# Altium schematic symbol library CX2040LNLT_component.SchLib: 1 symbol
Pins are listed as number, name and electrical type; pins without a type are passive.

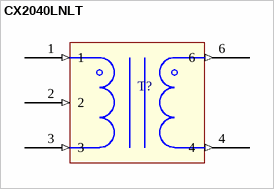
[diagram p0: symbol CX2040LNLT]

## CX2040LNLT
designator T?
BALUN 1MHZ-500MHZ 75/75 5SMD MOD; Manufacturer Part: CX2040LNLT; Manufacturer: Pulse Electronics; Transformer Type: RF and Wireless Balun; Frequency Range: 1MHz ~ 500MHz; Insertion Loss (Max): 0.9dB; Length: 3.81mm; Depth: 3.81mm; RoHS Compliant: Yes; Package: 5-SMD Module; Mounting Type: Surface Mount; Max Operating Temperature: 85 °C; Min Operating Temperature: -40 °C; Number of Pins: 5
footprint CX2040LNLT (RF AND WIRELESS BALUN TRANSFORMER)
pins: 1 (in), 2 (in), 3 (in), 4 (out), 6 (out)